# Altium integrated library 68786-202LF.IntLib: 1 symbol
Pins are listed as number, name and electrical type; pins without a type are passive.

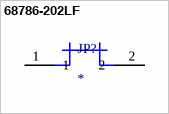
[diagram p0: symbol 68786-202LF]

## 68786-202LF
designator JP?
Low Profile Jumper , Single Row, 2 Positions, 2.54mm (0.100in) Pitch; MF: FCI; MP: 68786-202LF; SnapEDA_Link: https://www.snapeda.com/parts/68786-202LF/Framatome%20Connectors/view-part/4792913/?ref=snap; Price: None; Package: None; Value: *; Check_prices: https://www.snapeda.com/parts/68786-202LF/Framatome%20Connectors/view-part/4792913/?ref=eda; Purchase-URL: https://pricing.snapeda.com/search/part/68786-202LF/?ref=eda; Availability: Good
footprint FCI_68786-202LF
pins: 1, 2